# Altium footprint library Loggerhead.PcbLib: 175 footprints (part 6 of 11)
Each footprint in its own frame and in the unit in brackets; x right, y up, seen from the top. Pads: shape width x height; smd on the part's side, far side on the other; paste and mask are expansions set on the pad; w line width, h text height; cw(c..) or ccw(c..) is an arc to the next point about the centre after c.
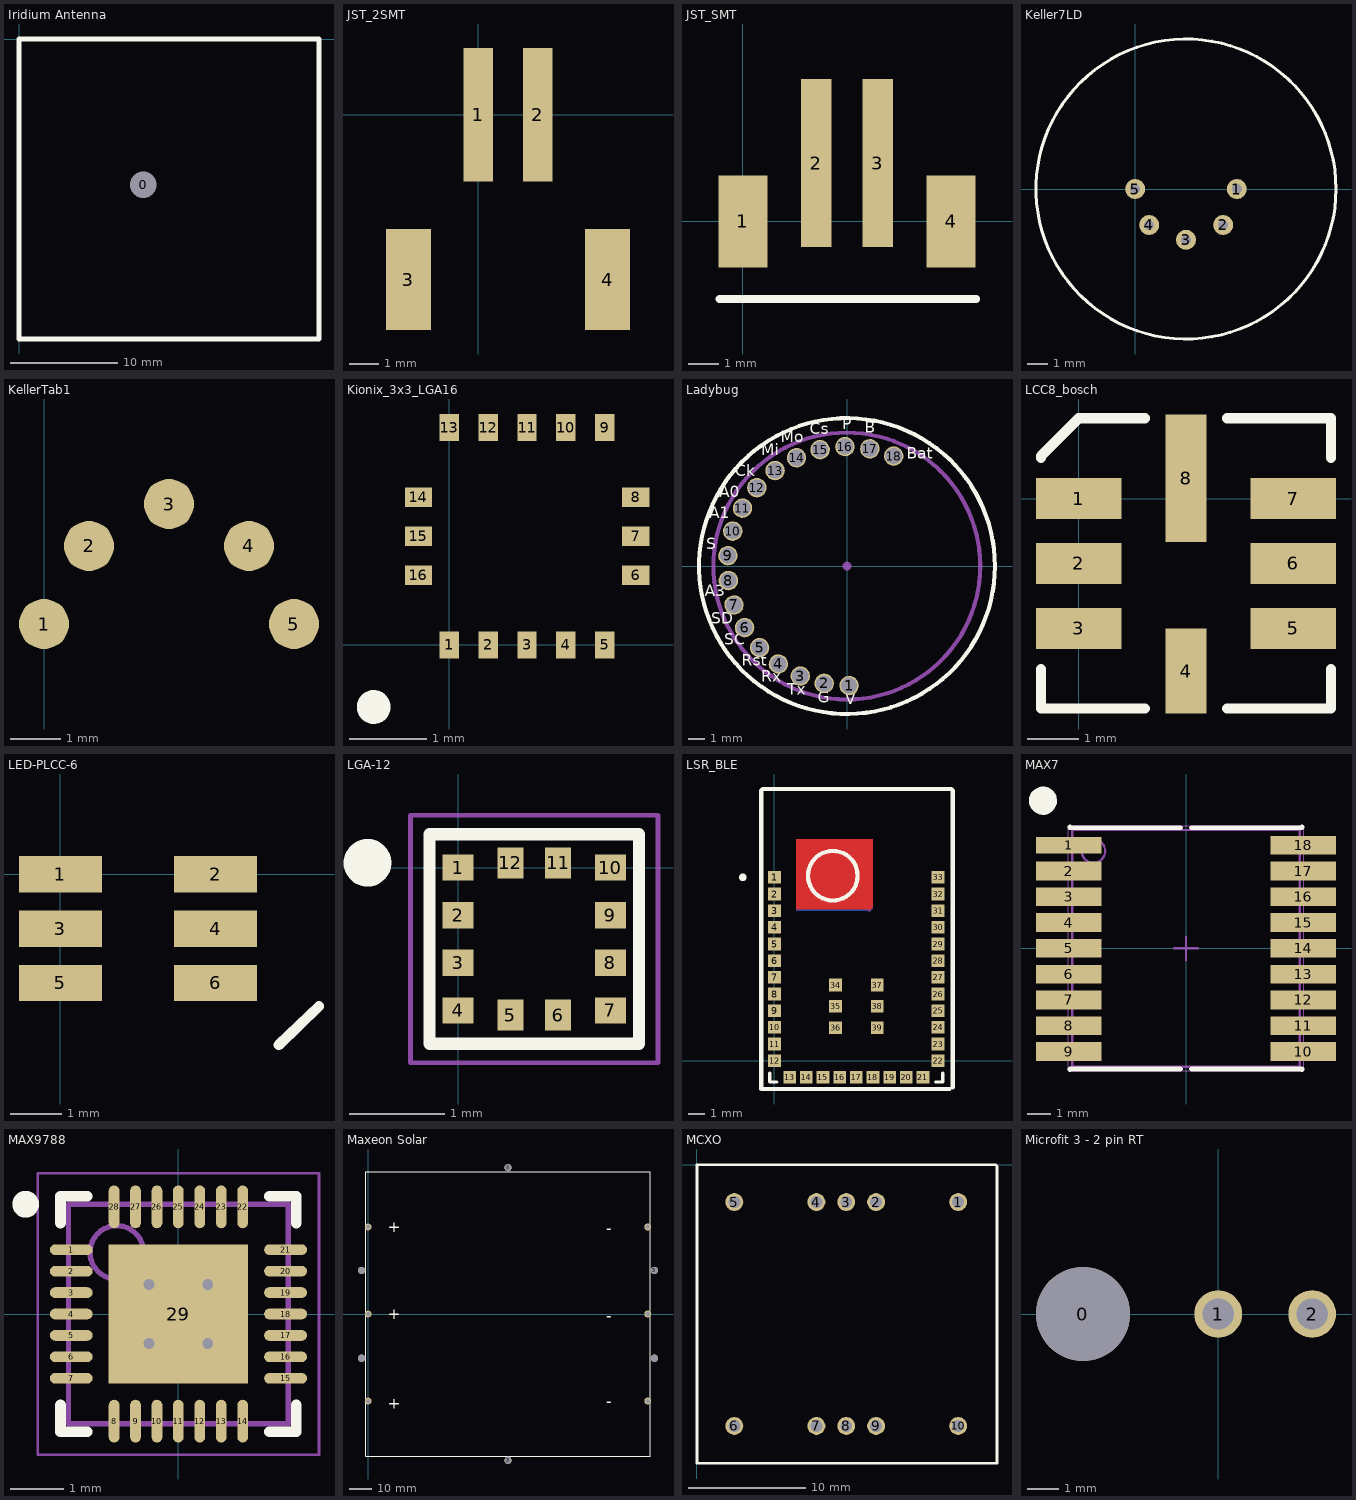
[diagram p5: the footprints below, top view; thin cyan lines are the x and y axes]

## Iridium Antenna [mm] "Iridium patch antenna"
height 8
pads (1):
  round 1.524 hole 2.5: 0(11.6,-13.6)
Top Overlay:
  lines w0.5: 0,-28 28,-28 28,0 0,0 0,-28

## JST_2SMT [mm] "JST 2 pin right angle surface mount connector"
height 2
pads (4):
  rect 1x4.5 smd: 1(0,0) 2(2,0)
  rect 1.5x3.4 smd: 3(-2.35,-5.55) 4(4.35,-5.55)

## JST_SMT [mm] "JST surface mount power connector"
height 6.6
pads (4):
  rect 1.6x3 all layers, no hole: 1(0,0) 4(6.8,0)
  rect 1x5.5 all layers, no hole: 2(2.4,1.905) 3(4.4,1.905)
Top Overlay:
  lines w0.254: -0.762,-2.54 7.62,-2.54

## Keller7LD [mm]
height 5
pads (5):
  round 1 hole 0.5: 1(5.08,0) 2(4.4,-1.8) 3(2.54,-2.54) 4(0.7,-1.8) 5(0,0)
Top Overlay:
  circle w0.154: c2.54,0 r7.5
3D body: height 5.25, standoff 0, extent -4.941,-7.485 10,7.485

## KellerTab1 [mm] "Pressure sensor"
height 1
pads (5):
  round 1 smd: 1(0,8) 2(0.9,9.56) 3(2.5,10.4) 4(4.1,9.56) 5(5,8)

## Kionix_3x3_LGA16 [mm]
pads (16):
  rect 0.25x0.35 smd: 1(0,0) 2(0.5,0) 3(1,0) 4(1.5,0) 5(2,0) 9(2,2.8) 10(1.5,2.8) 11(1,2.8) 12(0.5,2.8) 13(0,2.8)
  rect 0.35x0.25 smd: 6(2.4,0.9) 7(2.4,1.4) 8(2.4,1.9) 14(-0.4,1.9) 15(-0.4,1.4) 16(-0.4,0.9)
Top Overlay:
  circle w0.254: c-0.975,-0.8 r0.09

## Ladybug [mm] "Circular arduino connector"
pads (18):
  round 1.2 hole 1: 1(0.128,-7.387) 2(-1.411,-7.252) 3(-2.887,-6.8) 4(-4.238,-6.051) 5(-5.404,-5.038) 6(-6.333,-3.804) 7(-6.985,-2.404) 8(-7.333,-0.899) 9(-7.359,0.645) 10(-7.065,2.161) 11(-6.461,3.582) 12(-5.575,4.847) 13(-4.445,5.901) 14(-3.121,6.696) 15(-1.661,7.199) 16(-0.128,7.387) 17(1.411,7.252) 18(2.887,6.8)
Top Overlay:
  circle w0.254: c0,0 r9.144
  text "Bat" at 3.7,6.4 h1.2
  text "B" at 1.1,8 h1.2
  text "P" at -0.3,8.2 h1.2
  text "Cs" at -2.3,7.9 h1.2
  text "Mo" at -4.1,7.4 h1.2
  text "Mi" at -5.3,6.6 h1.2
  text "Ck" at -6.9,5.3 h1.2
  text "A0" at -7.9,4 h1.2
  text "A1" at -8.5,2.7 h1.2
  text "S" at -8.7,0.8 h1.2
  text "A3" at -8.8,-2.1 h1.2
  text "SD" at -8.4,-3.8 h1.2
  text "SC" at -7.6,-5.1 h1.2
  text "Rst" at -6.5,-6.4 h1.2
  text "Rx" at -5.3,-7.4 h1.2
  text "Tx" at -3.7,-8.2 h1.2
  text "V" at -0.1,-8.8 h1.2
  text "G" at -1.8,-8.7 h1.2
Mechanical 1:
  circle w0.254: c-0.012,0 r8.25
Mechanical 13:
  circle w0.254: c0,0 r0.141

## LCC8_bosch [mm]
pads (8):
  rect 1.67x0.8 smd: 1(0,0) 2(0,-1.27) 3(0,-2.54) 5(4.2,-2.54) 6(4.2,-1.27) 7(4.2,0)
  rect 0.8x1.67 smd: 4(2.1,-3.375)
  rect 0.8x2.5 smd: 8(2.1,0.4)
Top Overlay:
  lines w0.2: -0.735,-3.34 -0.735,-4.11 1.3,-4.11 ; -0.735,0.8 -0.735,0.835 0,1.57 1.3,1.57 ; 2.9,-4.11 4.935,-4.11 4.935,-3.34 ; 2.9,1.57 4.935,1.57 4.935,0.8

## LED-PLCC-6 [mm]
pads (6):
  rect 1.6x0.7 smd: 1(0,0) 2(3,0) 3(0,-1.05) 4(3,-1.05) 5(0,-2.1) 6(3,-2.1)
Top Overlay:
  lines w0.2: 4.22,-3.3 5,-2.55

## LGA-12 [mm] "LIS2DS12"
height 0.86
pads (12):
  rect 0.325x0.275 smd paste-0.02 mask+0.01: 1(0,0) 2(0,-0.5) 3(0,-1) 4(0,-1.5) 7(1.6,-1.5) 8(1.6,-1) 9(1.6,-0.5) 10(1.6,0)
  rect 0.275x0.325 smd paste-0.02 mask+0.01: 5(0.55,-1.55) 6(1.05,-1.55) 11(1.05,0.05) 12(0.55,0.05)
Top Overlay:
  circle w0.3: c-0.95,0.05 r0.1
  lines w0.127: -0.3,-1.85 -0.3,0.35 1.9,0.35 1.9,-1.85 -0.3,-1.85
Top Solder:
  region: 1.82,0.188 1.772,0.188 1.772,0.19 1.82,0.19
Mechanical 1:
  lines w0.05: -0.5,-2.05 -0.5,0.55 2.1,0.55 2.1,-2.05 -0.5,-2.05

## LSR_BLE [mm]
pads (39):
  rect 0.76x0.76 smd: 1(0,11) 2(0,10) 3(0,9) 4(0,8) 5(0,7) 6(0,6) 7(0,5) 8(0,4) 9(0,3) 10(0,2) 11(0,1) 12(0,0) 13(0.905,-1) 14(1.905,-1) 15(2.905,-1) 16(3.905,-1) 17(4.905,-1) 18(5.905,-1) 19(6.905,-1) 20(7.905,-1) 21(8.905,-1) 22(9.81,0) 23(9.81,1) 24(9.81,2) 25(9.81,3) 26(9.81,4) 27(9.81,5) 28(9.81,6) 29(9.81,7) 30(9.81,8) 31(9.81,9) 32(9.81,10) 33(9.81,11) 34(3.66,4.54) 35(3.66,3.27) 36(3.66,1.98) 37(6.17,4.54) 38(6.17,3.27) 39(6.17,1.98)
Top Layer:
  pour cut-out: 1.3,13.3 5.9,13.3 5.9,9.2 5.7,9 5.6,9.1 1.3,9.1
Bottom Layer:
  pour cut-out: 1.3,13.2 5.9,13.2 5.9,9.1 5.7,8.9 5.6,9 1.3,9
Top Overlay:
  circle w0.254: c3.5,11.1 r1.487
  circle w0.254: c-1.9,11 r0.1
  lines w0.2: -0.28,-0.76 -0.28,-1.28 0.145,-1.28 ; 9.665,-1.28 10.09,-1.28 10.09,-0.76
  lines w0.254: 10.5,-1.7 -0.8,-1.7 -0.8,16.2 -0.7,16.3 10.6,16.3 10.7,16.2 10.7,-1.6

## MAX7 [mm] "LCC, 18-Pins, Body 9.70x10.10mmx2.50mm, Pitch 1.10mm, IPC Medium Density"
height 2.5
pads (18):
  rect 2.8x0.7 smd: 1(-5,4.4)
  rect 2.8x0.8 smd: 2(-5,3.3) 3(-5,2.2) 4(-5,1.1) 5(-5,0) 6(-5,-1.1) 7(-5,-2.2) 8(-5,-3.3) 9(-5,-4.4) 10(5,-4.4) 11(5,-3.3) 12(5,-2.2) 13(5,-1.1) 14(5,0) 15(5,1.1) 16(5,2.2) 17(5,3.3) 18(5,4.4)
Top Overlay:
  lines w0.2: -4.95,-5.175 -4.95,-5.15 -0.225,-5.15 ; -4.95,5.175 -4.95,5.162 -4.962,5.15 -0.225,5.15 ; 0.225,-5.15 4.95,-5.15 4.95,-5.175 ; 0.225,5.15 4.95,5.15 4.95,5.175
  lines w0.6: -5.815,6.395 ccw(c-6.1,6.3) -5.8,6.3
Mechanical 13:
  circle w0.1: c-3.95,4.15 r0.5
  lines w0.1: -4.862,5.05 4.85,5.05 4.85,-5.05 -4.85,-5.05 -4.85,5.062 -4.862,5.05
Mechanical 15:
  lines w0.05: -5.025,-5.225 -5.025,5.225 5.025,5.225 5.025,-5.225 -5.025,-5.225
  lines w0.1: -0.5,0 0.5,0 ; 0,-0.5 0,0.5
3D body: height 2.5, standoff 0, extent -4.862,-5.05 4.85,5.062

## MAX9788 [mm] "QFN, 28-Leads, Body 4.00x4.00mm, Pitch 0.40mm, Thermal Pad 2.60x2.60mm, IPC Medium Density"
height 0.75
pads (29):
  oval 0.8x0.2 smd: 1(-2,1.2) 2(-2,0.8) 3(-2,0.4) 4(-2,0) 5(-2,-0.4) 6(-2,-0.8) 7(-2,-1.2) 15(2,-1.2) 16(2,-0.8) 17(2,-0.4) 18(2,0) 19(2,0.4) 20(2,0.8) 21(2,1.2)
  oval 0.2x0.8 smd: 8(-1.2,-2) 9(-0.8,-2) 10(-0.4,-2) 11(0,-2) 12(0.4,-2) 13(0.8,-2) 14(1.2,-2) 22(1.2,2) 23(0.8,2) 24(0.4,2) 25(0,2) 26(-0.4,2) 27(-0.8,2) 28(-1.2,2)
  rect 2.6x2.6 smd: 29(0,0)
via 0.55,-0.55 diameter 0.5 hole 0.2
via -0.55,-0.55 diameter 0.5 hole 0.2
via 0.55,0.55 diameter 0.5 hole 0.2
via -0.55,0.55 diameter 0.5 hole 0.2
Top Overlay:
  circle w0.25: c-2.85,2.05 r0.125
  lines w0.2: -2.2,-1.7 -2.2,-2.2 -1.7,-2.2 ; -2.2,1.7 -2.2,2.2 -1.7,2.2 ; 1.7,-2.2 2.2,-2.2 2.2,-1.7 ; 1.7,2.2 2.2,2.2 2.2,1.7
Mechanical 13:
  circle w0.1: c-1.15,1.15 r0.5
  lines w0.1: -2.05,-2.05 2.05,-2.05 2.05,2.05 -2.05,2.05 -2.05,-2.05
Mechanical 15:
  lines w0.05: -2.625,-2.625 2.625,-2.625 2.625,2.625 -2.625,2.625 -2.625,-2.625
  lines w0.1: -0.5,0 0.5,0 ; 0,-0.5 0,0.5
3D body: height 0.75, standoff 0.02, extent -2.05,-2.05 2.05,2.05

## Maxeon Solar [mm]
height 0.18
pads (12):
  round 3 hole 2: 1(-0.025,-38.3) 1(-0.025,0) 1(-0.025,38.3) 2(122.975,-38.3) 2(122.975,0) 2(122.975,38.3)
  round 3.2 hole 3.2: 3(61.525,-64.4) 3(61.525,64.4) 3(125.9,19.175)
  round 3.2 hole 3.15: 3.2(-2.875,-19.475) 3.2(-2.875,19.175) 3.2(125.9,-19.475)
Top Overlay:
  lines w0.254: -1.05,-62.525 124.05,-62.525 124.05,62.575 -1.05,62.575 -1.05,-62.525
  text "-" at 104.85,-40.85 h5
  text "-" at 104.85,-3.1 h5
  text "-" at 104.85,35.4 h5
  text "+" at 8.675,-41.656 h5
  text "+" at 8.675,-2.2 h5
  text "+" at 8.675,35.975 h5

## MCXO [mil]
height 503.94
pads (10):
  round 60 hole 40: 1(875,-125) 2(600,-125) 3(500,-125) 4(400,-125) 5(125,-125) 6(125,-875) 7(400,-875) 8(500,-875) 9(600,-875) 10(875,-875)
Top Overlay:
  lines w10: 0,-1000 0,0 1000,0 ; 5,-1000 1005,-1000 1005,-5

## Microfit 3 - 2 pin RT [mm]
height 8
pads (3):
  round 3 hole 3: 0(-4.32,0)
  round 1.524 hole 1: 1(0,0) 2(3,0)